# Altium footprint library PA4339.PcbLib: 1 footprints
Each footprint in its own frame and in the unit in brackets; x right, y up, seen from the top. Pads: shape width x height; smd on the part's side, far side on the other; paste and mask are expansions set on the pad; w line width, h text height; cw(c..) or ccw(c..) is an arc to the next point about the centre after c.
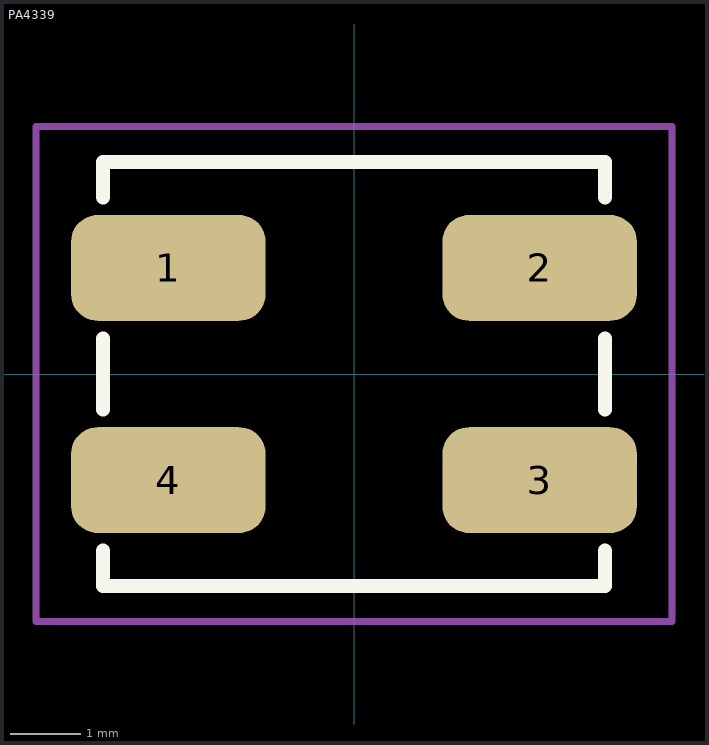
[diagram p0: the footprint, top view; thin cyan lines are the x and y axes]

## PA4339 [mm]
pads (4):
  rrect50% 2.75x1.5 smd: 1(-2.625,1.5) 2(2.625,1.5) 3(2.625,-1.5) 4(-2.625,-1.5)
Top Overlay:
  lines w0.2: -3.55,-2.5 -3.55,-3 3.55,-3 3.55,-2.5 ; -3.55,-0.5 -3.55,0.5 ; -3.55,2.5 -3.55,3 3.55,3 3.55,2.5 ; 3.55,-0.5 3.55,0.5
Top Courtyard:
  lines w0.1: -4.5,-3.5 -3.55,-3.5 4.5,-3.5 4.5,3.5 -4.5,3.5 -4.5,-3.5
3D body "PA4339.XXXNL.STEP": height 3.3, standoff 0, extent -3.55,-3.005 3.55,3.005